# Altium schematic symbol library LM4950 Stereo 3W Audio Amplifier.SchLib: 1 symbol
Pins are listed as number, name and electrical type; pins without a type are passive.

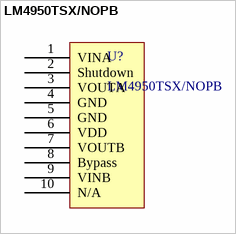
[diagram p0: symbol LM4950TSX/NOPB]

## LM4950TSX/NOPB
designator U?
IC AMP AUDIO PWR 7.5W AB TO263-9; Manufacturer: TI; Digikey Part #: LM4950TSX/NOPBCT-ND; Manufacturer Part #: LM4950TSX/NOPB
footprint TS9A
pins: 1 VINA, 2 Shutdown, 3 VOUTA, 4 GND, 5 GND, 6 VDD, 7 VOUTB, 8 Bypass, 9 VINB, 10 N/A